# EAGLE library part M74HC4094RM13TR (library ST_Microelctronics_By_element14_Batch_1)
8 BIT SIPO SHIFT LATCH REGISTER (3-STATE)
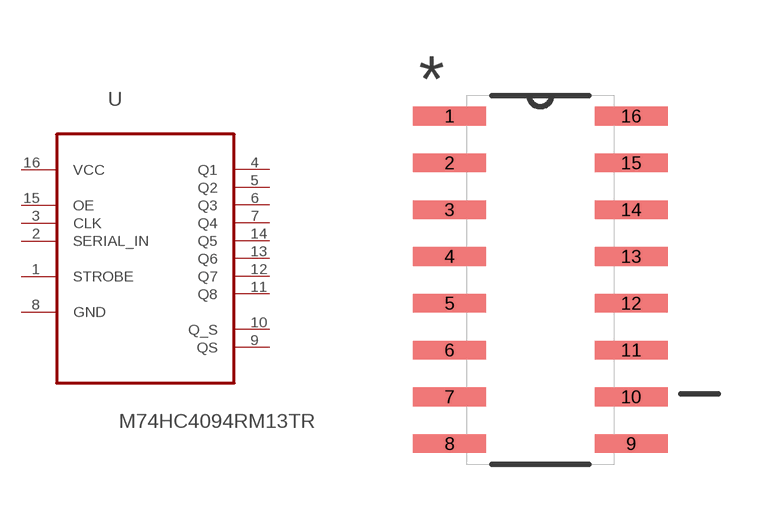
[diagram p241: symbol with the pads of SOIC127P600X175-16N; footprint SOIC127P600X175-16N]

Designator prefix U

## M74HC4094RM13TR (MPN: M74HC4094RM13TR; OC_FARNELL: 1288452; OC_NEWARK: 26M1817; PACKAGE: SOP-16; SUPPLIER: STMICROELECTRONICS)  [SOIC127P600X175-16N]
1  STROBE  in
2  SERIAL_IN  pas
3  CLK  in
4  Q1  out
5  Q2  out
6  Q3  out
7  Q4  out
8  GND  pas
9  QS  out
10  Q_S  out
11  Q8  out
12  Q7  out
13  Q6  out
14  Q5  out
15  OE  in
16  VCC  pwr

## Footprint SOIC127P600X175-16N (pad centres in mm)
smd 1.981 x 0.508: 1 -2.464,4.445; 2 -2.464,3.175; 3 -2.464,1.905; 4 -2.464,0.635; 5 -2.464,-0.635; 6 -2.464,-1.905; 7 -2.464,-3.175; 8 -2.464,-4.445; 9 2.464,-4.445; 10 2.464,-3.175; 11 2.464,-1.905; 12 2.464,-0.635; 13 2.464,0.635; 14 2.464,1.905; 15 2.464,3.175; 16 2.464,4.445